# EAGLE library part XBEE (library custom)
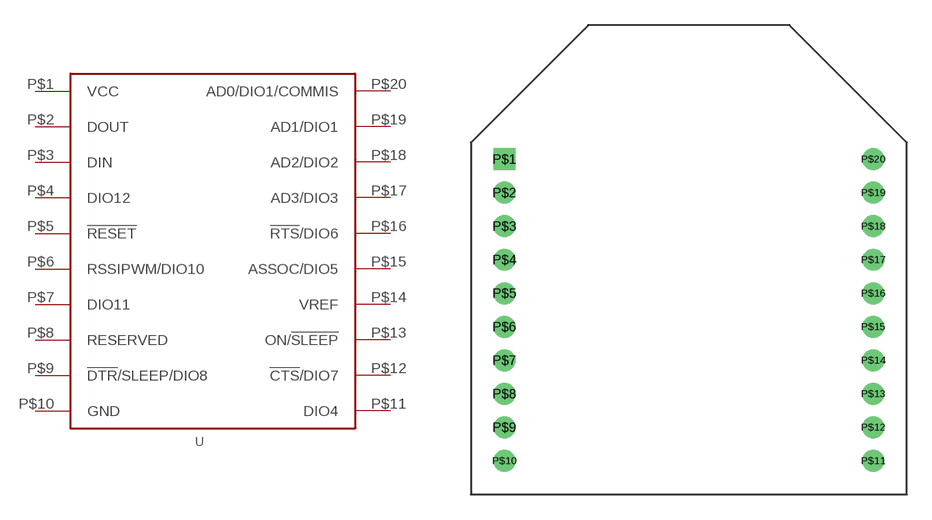
[diagram p39: symbol with the pads of XBEE_CHIP_ANT; footprint XBEE_CHIP_ANT]

Designator prefix -

## XBEE  [XBEE_CHIP_ANT]
P$1  VCC
P$2  DOUT
P$3  DIN
P$4  DIO12
P$5  !RESET
P$6  RSSIPWM/DIO10
P$7  DIO11
P$8  RESERVED
P$9  !DTR!/SLEEP/DIO8
P$10  GND
P$11  DIO4
P$12  !CTS!/DIO7
P$13  ON/!SLEEP
P$14  VREF
P$15  ASSOC/DIO5
P$16  !RTS!/DIO6
P$17  AD3/DIO3
P$18  AD2/DIO2
P$19  AD1/DIO1
P$20  AD0/DIO1/COMMIS

## Footprint XBEE_CHIP_ANT (pad centres in mm)
drill 0.8 square: P$1 -11,9
drill 0.8 round: P$2 -11,7; P$3 -11,5; P$4 -11,3; P$5 -11,1; P$6 -11,-1; P$7 -11,-3; P$8 -11,-5; P$9 -11,-7; P$10 -11,-9; P$11 11,-9; P$12 11,-7; P$13 11,-5; P$14 11,-3; P$15 11,-1; P$16 11,1; P$17 11,3; P$18 11,5; P$19 11,7; P$20 11,9